# Altium schematic symbol library SCH - DRIVER - LED - TI TPS61199_PWP_20.SchLib: 1 symbol
Pins are listed as number, name and electrical type; pins without a type are passive.

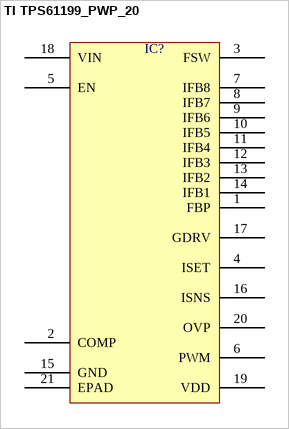
[diagram p0: symbol TI TPS61199_PWP_20]

## TI TPS61199_PWP_20
designator IC?  (value not drawn)
pins: 1 FBP, 2 COMP, 3 FSW, 4 ISET, 5 EN, 6 PWM, 7 IFB8, 8 IFB7, 9 IFB6, 10 IFB5, 11 IFB4, 12 IFB3, 13 IFB2, 14 IFB1, 15 GND, 16 ISNS, 17 GDRV, 18 VIN, 19 VDD, 20 OVP, 21 EPAD